# EAGLE library part 750341448 (library Wurth Electronics Midcom Inc - EAGLE Lib V2-1)
Package Style: EE20/10/6 Mounting: THT Pins: 10 pins Bobbin: 070-4989 Best pinouts for production vary per application. Please contact Wurth Electronics Midcom, Inc. for assistance with your custom design. Website: Wurth Electronics Midcom <http://www.we-online.com/midcom> Contact us Wurth Electronics Midcom, Inc. 121 Airport Dr. Watertown, SD 57201 Phone: (605) 886-4385 Fax: (605) 886-4486 E-Mail: midcom@we-online.com
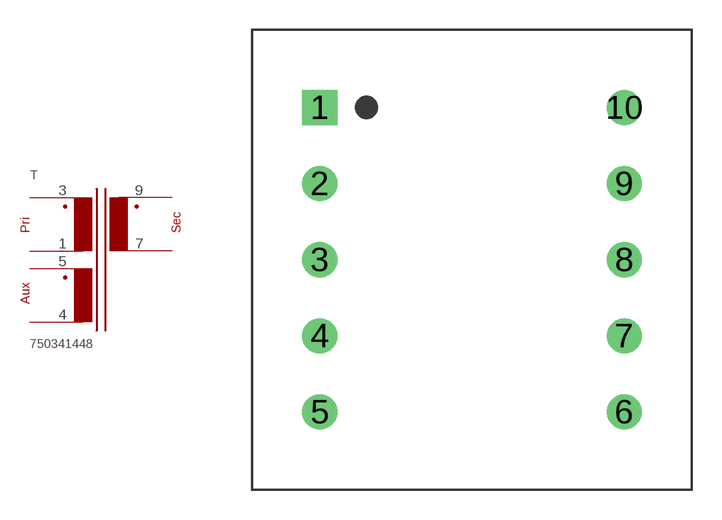
[diagram p130: symbol with the pads of EE20/10/6_THT_H_10PIN_(4989); footprint EE20/10/6_THT_H_10PIN_(4989)]

Designator prefix T

## 750341448  [EE20/10/6_THT_H_10PIN_(4989)]
1  1  pas
3  3  pas
4  4  pas
5  5  pas
7  7  pas
9  9  pas

## Footprint EE20/10/6_THT_H_10PIN_(4989) (pad centres in mm)
Package Style: EE20/10/6 Mounting: THT Pins: 10 Bobbin: 070-4989
drill 1.168 square: 1 -7.62,7.62
drill 1.168: 2 -7.62,3.81; 3 -7.62,0; 4 -7.62,-3.81; 5 -7.62,-7.62; 6 7.62,-7.62; 7 7.62,-3.81; 8 7.62,0; 9 7.62,3.81; 10 7.62,7.62